# EAGLE library part MICRO-USB-5P (library OPL)
ST-USB-001E：MICRO USB B SMD R/A
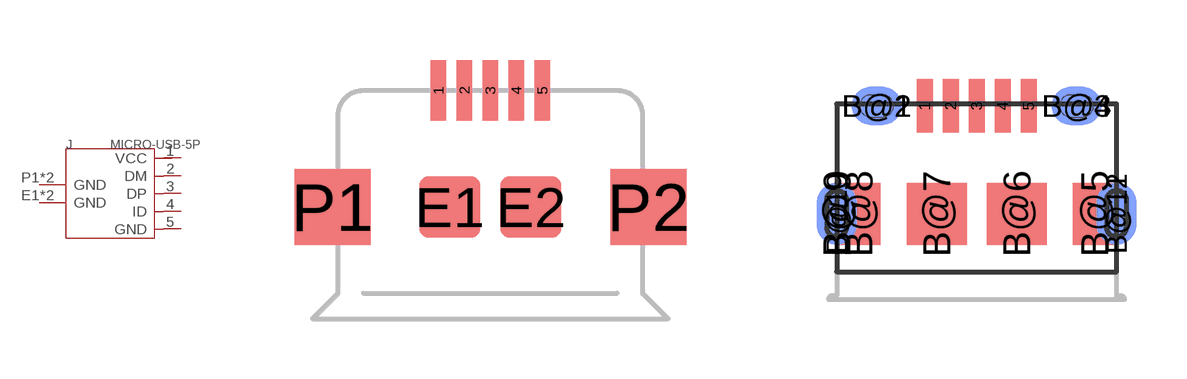
[diagram p22: symbol with the pads of B-SMD-5P; footprints B-SMD-5P, C132563]

Designator prefix J

## MICRO-USB-5P-340015001  [B-SMD-5P]
1  VCC
2  DM
3  DP
4  ID
5  GND
E1  GND
E2  GND
P1  GND
P2  GND

## MICRO-USB-5P  [C132563]
1  VCC
2  DM
3  DP
4  ID
5  GND
B@1  GND
B@2  GND
B@3  GND
B@4  GND
B@5  GND
B@6  GND
B@7  GND
B@8  GND
B@9  GND
B@10  GND
B@11  GND
B@12  GND

## Footprint B-SMD-5P (pad centres in mm)
smd 0.38 x 1.52: 1 -1.3,2.54; 2 -0.65,2.54; 3 0,2.54; 4 0.65,2.54; 5 1.3,2.54
smd 1.524 x 1.524: E1 -1.016,-0.381; E2 1.016,-0.381
smd 1.9 x 1.9: P1 -3.95,-0.381; P2 3.95,-0.381

## Footprint C132563 (pad centres in mm)
smd 0.4 x 1.35: 1 -1.3,4.15; 2 -0.65,4.15; 3 0,4.15; 4 0.65,4.15; 5 1.3,4.15
smd 1.25 x 0.95 bottom: B@1 -2.5,4.15; B@3 2.5,4.15
smd 1.25 x 0.95: B@2 -2.5,4.15; B@4 2.5,4.15
smd 1.1 x 1.55: B@5 2.95,1.45; B@8 -2.95,1.45
smd 1.5 x 1.55: B@6 1,1.45; B@7 -1,1.45
smd 1 x 1.55: B@9 -3.5,1.45; B@12 3.5,1.45
smd 1 x 1.55 bottom: B@10 -3.5,1.45; B@11 3.5,1.45